# Altium footprint library C0402C104K4RACTU.PcbLib: 3 footprints
Each footprint in its own frame and in the unit in brackets; x right, y up, seen from the top. Pads: shape width x height; smd on the part's side, far side on the other; paste and mask are expansions set on the pad; w line width, h text height; cw(c..) or ccw(c..) is an arc to the next point about the centre after c.
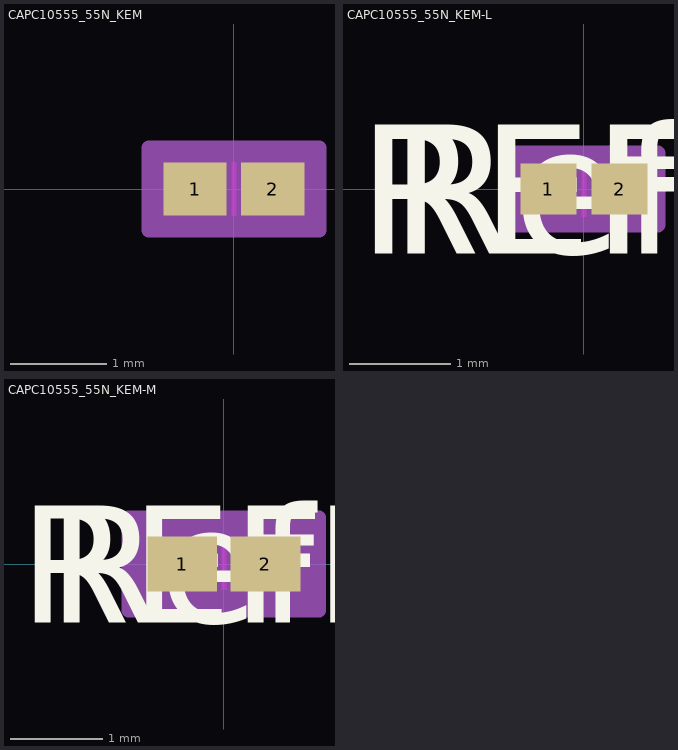
[diagram p0: the footprints below, top view; thin cyan lines are the x and y axes]

## CAPC10555_55N_KEM [mm]
pads (2):
  rect 0.653x0.55 smd paste+0 mask+0: 1(-0.402,0) 2(0.402,0)
Top Layer keep-out:
  region: -0.024,-0.224 -0.024,0.224 0.024,0.224 0.024,-0.224
Top Overlay:
Keep-Out Layer:
  region: -0.024,-0.275 -0.024,0.275 0.024,0.275 0.024,-0.275
Mechanical 13:
  lines w0.025: -0.525,-0.275 -0.525,0.275 ; -0.525,-0.275 0.525,-0.275 ; -0.525,-0.275 -0.125,-0.275 -0.125,0.275 -0.525,0.275 ; -0.525,-0.275 -0.525,0.275 ; -0.525,0.275 0.525,0.275 ; 0.525,-0.275 0.525,0.275 ; 0.525,-0.275 0.525,0.275 ; 0.525,-0.275 0.125,-0.275 0.125,0.275 0.525,0.275
Mechanical 15:
  region: 0.881,-0.427 -0.881,-0.427 -0.881,0.427 0.881,0.427
  lines w0.152: -0.881,-0.427 0.881,-0.427 0.881,0.427 -0.881,0.427 -0.881,-0.427
3D body "CAPC10555_55N_KEM.step": height 0.55, standoff 0, extent -0.525,-0.275 0.525,0.275

## CAPC10555_55N_KEM-L [mm]
pads (2):
  rect 0.552x0.499 smd paste+0 mask+0: 1(-0.351,0) 2(0.351,0)
Top Layer keep-out:
  region: -0.024,-0.224 -0.024,0.224 0.024,0.224 0.024,-0.224
Top Overlay:
  text "REFDES" at -2.222,-0.635 h1.27
  text "RefDes" at -1.905,-0.635 h1.27
Keep-Out Layer:
  region: -0.024,-0.275 -0.024,0.275 0.024,0.275 0.024,-0.275
Mechanical 13:
  lines w0.025: -0.525,-0.275 -0.525,0.275 ; -0.525,-0.275 -0.125,-0.275 -0.125,0.275 -0.525,0.275 ; -0.525,-0.275 0.525,-0.275 ; -0.525,-0.275 -0.525,0.275 ; -0.525,0.275 0.525,0.275 ; 0.525,-0.275 0.125,-0.275 0.125,0.275 0.525,0.275 ; 0.525,-0.275 0.525,0.275 ; 0.525,-0.275 0.525,0.275
  text "RefDes2" at -2.222,-0.635 h1.27
Mechanical 15:
  region: 0.728,-0.351 -0.728,-0.351 -0.728,0.351 0.728,0.351
  lines w0.152: -0.728,-0.351 -0.728,0.351 0.728,0.351 0.728,-0.351 -0.728,-0.351
3D body "CAPC10555_55N_KEM.step": height 0.55, standoff 0, extent -0.525,-0.275 0.525,0.275

## CAPC10555_55N_KEM-M [mm]
pads (2):
  rect 0.755x0.601 smd paste+0 mask+0: 1(-0.452,0) 2(0.452,0)
Top Layer keep-out:
  region: -0.024,-0.224 -0.024,0.224 0.024,0.224 0.024,-0.224
Top Overlay:
  text "REFDES" at -2.222,-0.635 h1.27
  text "RefDes" at -1.905,-0.635 h1.27
Keep-Out Layer:
  region: -0.024,-0.275 -0.024,0.275 0.024,0.275 0.024,-0.275
Mechanical 13:
  lines w0.025: -0.525,-0.275 -0.525,0.275 ; -0.525,-0.275 -0.125,-0.275 -0.125,0.275 -0.525,0.275 ; -0.525,-0.275 0.525,-0.275 ; -0.525,-0.275 -0.525,0.275 ; -0.525,0.275 0.525,0.275 ; 0.525,-0.275 0.125,-0.275 0.125,0.275 0.525,0.275 ; 0.525,-0.275 0.525,0.275 ; 0.525,-0.275 0.525,0.275
  text "RefDes2" at -2.222,-0.635 h1.27
Mechanical 15:
  region: 1.033,-0.504 -1.033,-0.504 -1.033,0.504 1.033,0.504
  lines w0.152: -1.033,-0.504 -1.033,0.504 1.033,0.504 1.033,-0.504 -1.033,-0.504
3D body "CAPC10555_55N_KEM.step": height 0.55, standoff 0, extent -0.525,-0.275 0.525,0.275